# EAGLE library part TXS2-L (library Panasonic Relay)
TX-S - 2 Form C - 2 coil latching Data sheet <https://www.panasonic-electric-works.com/eu/download.htm?id=55733> Parameters Max. switching voltage: 110V DC Max. switching current: 1A Operational function: Single side stable, 2 coil latching Contact arrangement: 2 CO Applications Communications (xDSL) Measurement equipment Security equipment Home appliances and audio visual equipment Automotive equipment Mediacal equipment Options Also available as single side stable version.
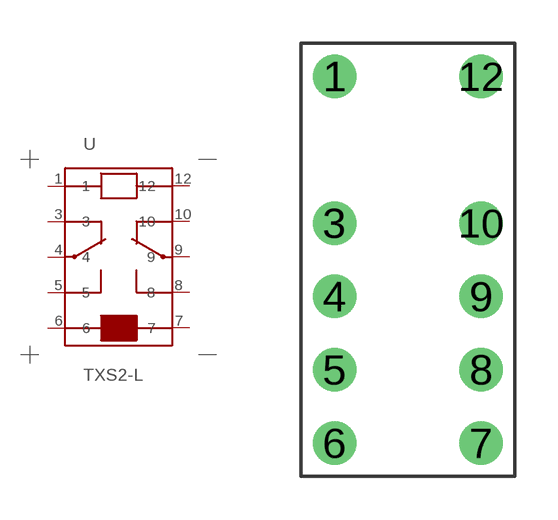
[diagram p61: symbol with the pads of TX/-TH/-S_2CLT; footprint TX/-TH/-S_2CLT]

Designator prefix -

## TXS2-L-12V (U_COIL: 12V DC), TXS2-L-24V (U_COIL: 24V DC), TXS2-L-3V (U_COIL: 3V DC), TXS2-L-4.5V (U_COIL: 4.5V DC), TXS2-L-5V (U_COIL: 5V DC), TXS2-L-6V (U_COIL: 6V DC), TXS2-L-9V (U_COIL: 9V DC)  [TX/-TH/-S_2CLT]
1  1
3  3
4  4
5  5
6  6
7  7
8  8
9  9
10  10
12  12

## Footprint TX/-TH/-S_2CLT (pad centres in mm)
drill 1: 1 -2.54,6.35; 3 -2.54,1.27; 4 -2.54,-1.27; 5 -2.54,-3.81; 6 -2.54,-6.35; 7 2.54,-6.35; 8 2.54,-3.81; 9 2.54,-1.27; 10 2.54,1.27; 12 2.54,6.35